# Altium schematic symbol library SJ3-35083B-TR.SchLib: 1 symbol
Pins are listed as number, name and electrical type; pins without a type are passive.

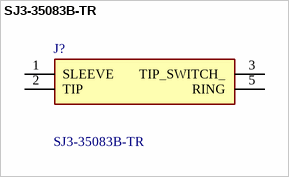
[diagram p0: symbol SJ3-35083B-TR]

## SJ3-35083B-TR
designator J?
3.5 mm Stereo Jack, Through Hole, 3 Conductors, 1 Internal Switches,  Tape & Reel Packaging; Manufacturer_Name: Same Sky; Geometry.Height: 5.3mm; Manufacturer_Part_Number: SJ3-35083B-TR; Mouser Part Number: 179-SJ3-35083B-TR; Mouser Price/Stock: https://www.mouser.co.uk/ProductDetail/Same-Sky/SJ3-35083B-TR?qs=IKkN%2F947nfDjNSxAQdYIVA%3D%3D; Arrow Part Number: *; Arrow Price/Stock: *; Datasheet Link: https://www.sameskydevices.com/product/resource/supplyframepdf/sj3-3508x.pdf
footprint SJ335083BTR
pins: 1 SLEEVE, 2 TIP, 3 TIP_SWITCH_, 5 RING